# EAGLE library part STM32F469BET6 (library circuit_tree)
IC
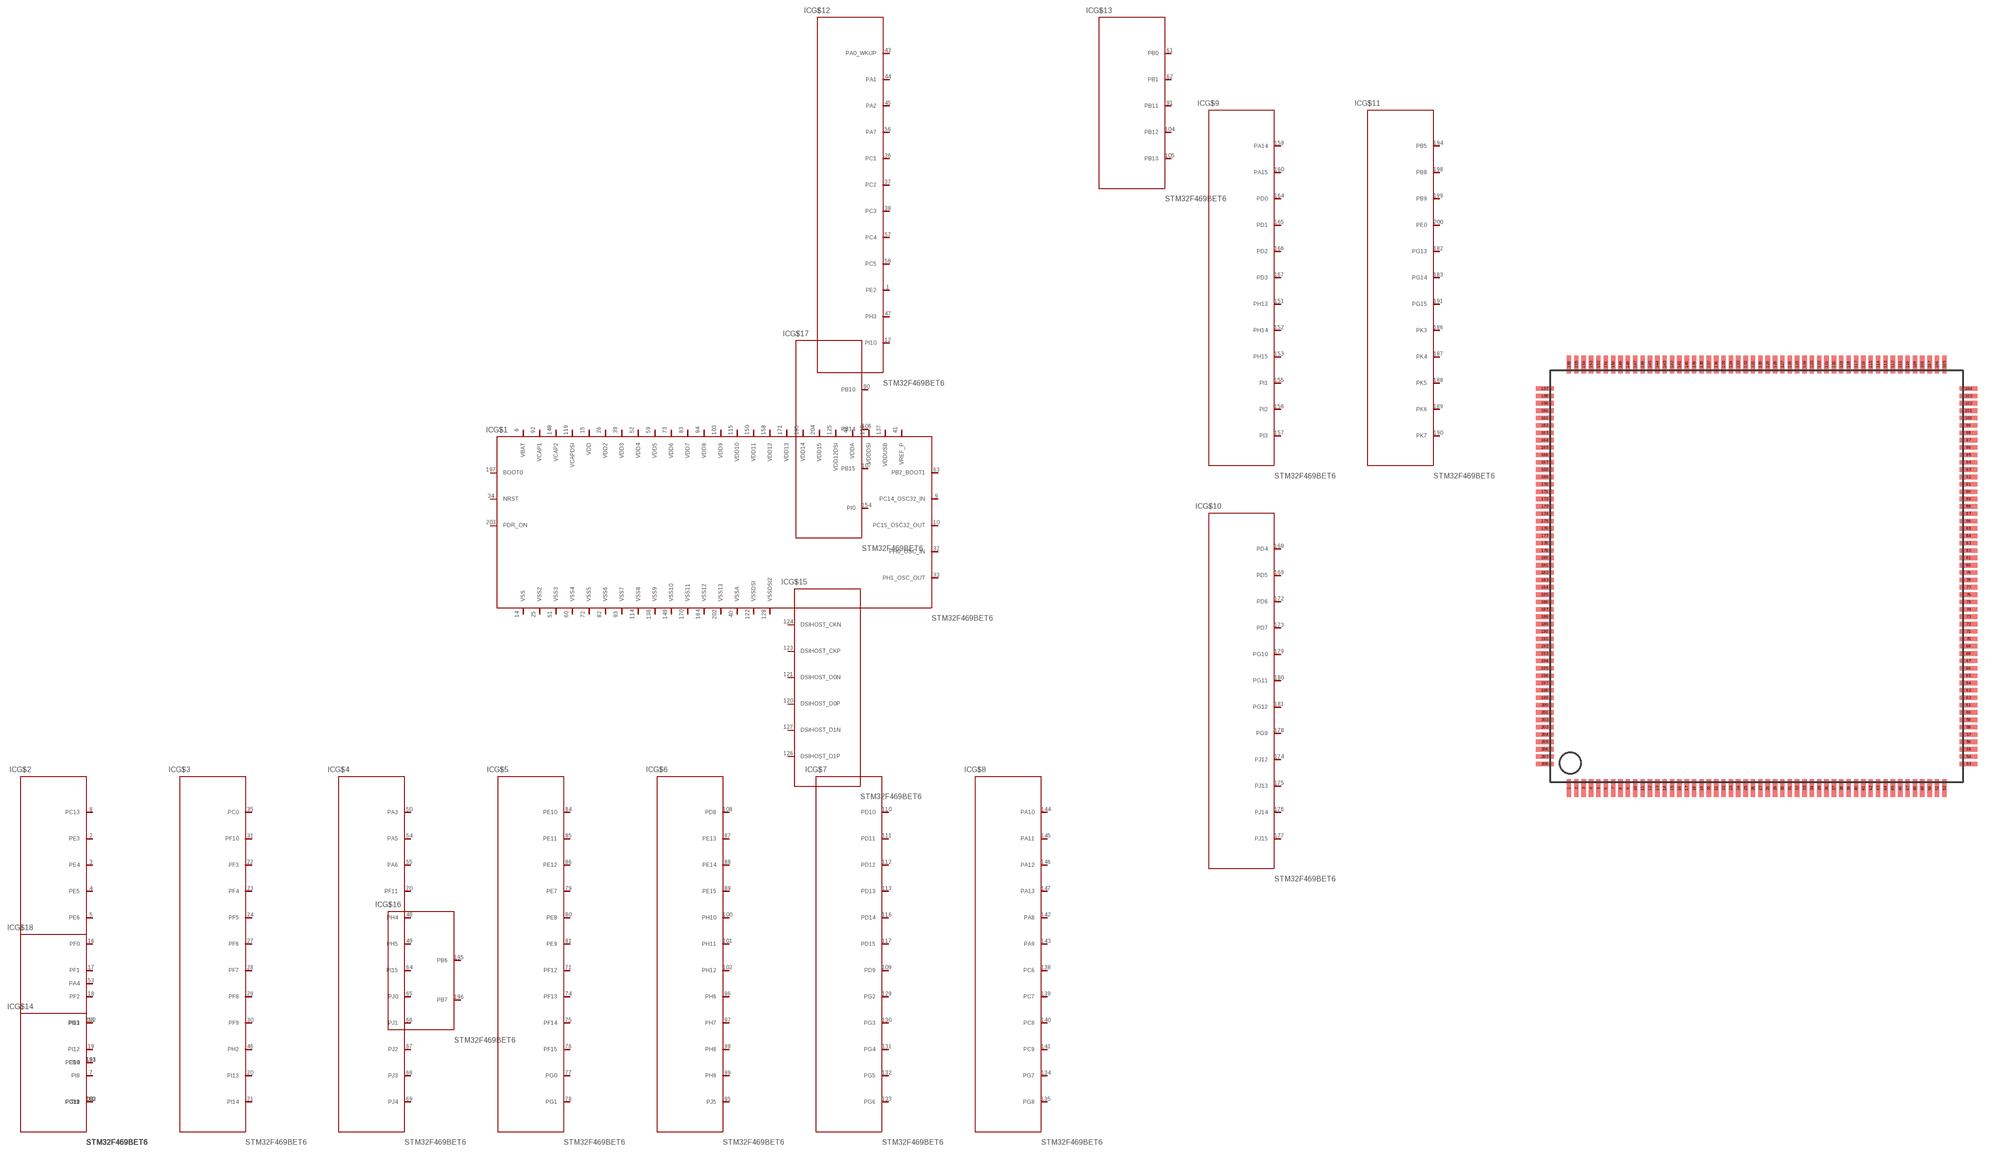
[diagram p11: symbol with the pads of LQFP208; footprint LQFP208]

Designator prefix IC; gates G$1=STM32F469BET6 G$2=STM32F469BET62 G$3=STM32F469BET63 G$4=STM32F469BET64 G$5=STM32F469BET65 G$6=STM32F469BET66 G$7=STM32F469BET67 G$8=STM32F469BET68 G$9=STM32F469BET69 G$10=STM32F469BET610 G$11=STM32F469BET611 G$12=STM32F469BET612 G$13=STM32F469BET613 G$14=STM32F469BET614 G$15=STM32F469BET615 G$16=STM32F469BET616 G$17=STM32F469BET617 G$18=STM32F469BET618

## STM32F469BET6  [LQFP208]
1  G$12:PE2  pas
2  G$2:PE3  pas
3  G$2:PE4  pas
4  G$2:PE5  pas
5  G$2:PE6  pas
6  G$1:VBAT  pas
7  G$2:PI8  pas
8  G$2:PC13  pas
9  G$1:PC14_OSC32_IN  pas
10  G$1:PC15_OSC32_OUT  pas
11  G$2:PI9  pas
12  G$12:PI10  pas
13  G$2:PI11  pas
14  G$1:VSS  pas
15  G$1:VDD  pas
16  G$2:PF0  pas
17  G$2:PF1  pas
18  G$2:PF2  pas
19  G$2:PI12  pas
20  G$3:PI13  pas
21  G$3:PI14  pas
22  G$3:PF3  pas
23  G$3:PF4  pas
24  G$3:PF5  pas
25  G$1:VSS2  pas
26  G$1:VDD2  pas
27  G$3:PF6  pas
28  G$3:PF7  pas
29  G$3:PF8  pas
30  G$3:PF9  pas
31  G$3:PF10  pas
32  G$1:PH0_OSC_IN  pas
33  G$1:PH1_OSC_OUT  pas
34  G$1:NRST  pas
35  G$3:PC0  pas
36  G$12:PC1  pas
37  G$12:PC2  pas
38  G$12:PC3  pas
39  G$1:VDD3  pas
40  G$1:VSSA  pas
41  G$1:VREF_P  pas
42  G$1:VDDA  pas
43  G$12:PA0_WKUP  pas
44  G$12:PA1  pas
45  G$12:PA2  pas
46  G$3:PH2  pas
47  G$12:PH3  pas
48  G$4:PH4  pas
49  G$4:PH5  pas
50  G$4:PA3  pas
51  G$1:VSS3  pas
52  G$1:VDD4  pas
53  G$18:PA4  pas
54  G$4:PA5  pas
55  G$4:PA6  pas
56  G$12:PA7  pas
57  G$12:PC4  pas
58  G$12:PC5  pas
59  G$1:VDD5  pas
60  G$1:VSS4  pas
61  G$13:PB0  pas
62  G$13:PB1  pas
63  G$1:PB2_BOOT1  pas
64  G$4:PI15  pas
65  G$4:PJ0  pas
66  G$4:PJ1  pas
67  G$4:PJ2  pas
68  G$4:PJ3  pas
69  G$4:PJ4  pas
70  G$4:PF11  pas
71  G$5:PF12  pas
72  G$1:VSS5  pas
73  G$1:VDD6  pas
74  G$5:PF13  pas
75  G$5:PF14  pas
76  G$5:PF15  pas
77  G$5:PG0  pas
78  G$5:PG1  pas
79  G$5:PE7  pas
80  G$5:PE8  pas
81  G$5:PE9  pas
82  G$1:VSS6  pas
83  G$1:VDD7  pas
84  G$5:PE10  pas
85  G$5:PE11  pas
86  G$5:PE12  pas
87  G$6:PE13  pas
88  G$6:PE14  pas
89  G$6:PE15  pas
90  G$17:PB10  pas
91  G$13:PB11  pas
92  G$1:VCAP1  pas
93  G$1:VSS7  pas
94  G$1:VDD8  pas
95  G$6:PJ5  pas
96  G$6:PH6  pas
97  G$6:PH7  pas
98  G$6:PH8  pas
99  G$6:PH9  pas
100  G$6:PH10  pas
101  G$6:PH11  pas
102  G$6:PH12  pas
103  G$1:VDD9  pas
104  G$13:PB12  pas
105  G$13:PB13  pas
106  G$17:PB14  pas
107  G$17:PB15  pas
108  G$6:PD8  pas
109  G$7:PD9  pas
110  G$7:PD10  pas
111  G$7:PD11  pas
112  G$7:PD12  pas
113  G$7:PD13  pas
114  G$1:VSS8  pas
115  G$1:VDD10  pas
116  G$7:PD14  pas
117  G$7:PD15  pas
118  G$1:VDDDSI  pas
119  G$1:VCAPDSI  pas
120  G$15:DSIHOST_D0P  pas
121  G$15:DSIHOST_D0N  pas
122  G$1:VSSDSI  pas
123  G$15:DSIHOST_CKP  pas
124  G$15:DSIHOST_CKN  pas
125  G$1:VDD12DSI  pas
126  G$15:DSIHOST_D1P  pas
127  G$15:DSIHOST_D1N  pas
128  G$1:VSSDSI2  pas
129  G$7:PG2  pas
130  G$7:PG3  pas
131  G$7:PG4  pas
132  G$7:PG5  pas
133  G$7:PG6  pas
134  G$8:PG7  pas
135  G$8:PG8  pas
136  G$1:VSS9  pas
137  G$1:VDDUSB  pas
138  G$8:PC6  pas
139  G$8:PC7  pas
140  G$8:PC8  pas
141  G$8:PC9  pas
142  G$8:PA8  pas
143  G$8:PA9  pas
144  G$8:PA10  pas
145  G$8:PA11  pas
146  G$8:PA12  pas
147  G$8:PA13  pas
148  G$1:VCAP2  pas
149  G$1:VSS10  pas
150  G$1:VDD11  pas
151  G$9:PH13  pas
152  G$9:PH14  pas
153  G$9:PH15  pas
154  G$17:PI0  pas
155  G$9:PI1  pas
156  G$9:PI2  pas
157  G$9:PI3  pas
158  G$1:VDD12  pas
159  G$9:PA14  pas
160  G$9:PA15  pas
161  G$14:PC10  pas
162  G$14:PC11  pas
163  G$18:PC12  pas
164  G$9:PD0  pas
165  G$9:PD1  pas
166  G$9:PD2  pas
167  G$9:PD3  pas
168  G$10:PD4  pas
169  G$10:PD5  pas
170  G$1:VSS11  pas
171  G$1:VDD13  pas
172  G$10:PD6  pas
173  G$10:PD7  pas
174  G$10:PJ12  pas
175  G$10:PJ13  pas
176  G$10:PJ14  pas
177  G$10:PJ15  pas
178  G$10:PG9  pas
179  G$10:PG10  pas
180  G$10:PG11  pas
181  G$10:PG12  pas
182  G$11:PG13  pas
183  G$11:PG14  pas
184  G$1:VSS12  pas
185  G$1:VDD14  pas
186  G$11:PK3  pas
187  G$11:PK4  pas
188  G$11:PK5  pas
189  G$11:PK6  pas
190  G$11:PK7  pas
191  G$11:PG15  pas
192  G$18:PB3  pas
193  G$18:PB4  pas
194  G$11:PB5  pas
195  G$16:PB6  pas
196  G$16:PB7  pas
197  G$1:BOOT0  pas
198  G$11:PB8  pas
199  G$11:PB9  pas
200  G$11:PE0  pas
202  G$1:VSS13  pas
203  G$1:PDR_ON  pas
204  G$1:VDD15  pas

## Footprint LQFP208 (pad centres in mm)
LQFP208 28 x 28 mm, 208-pin low-profile quad flat package
smd 0.3 x 1.2: 1 -12.75,-14.4; 2 -12.25,-14.4; 3 -11.75,-14.4; 4 -11.25,-14.4; 5 -10.75,-14.4; 6 -10.25,-14.4; 7 -9.75,-14.4; 8 -9.25,-14.4; 9 -8.75,-14.4; 10 -8.25,-14.4; 11 -7.75,-14.4; 12 -7.25,-14.4; 13 -6.75,-14.4; 14 -6.25,-14.4; 15 -5.75,-14.4; 16 -5.25,-14.4; 17 -4.75,-14.4; 18 -4.25,-14.4; 19 -3.75,-14.4; 20 -3.25,-14.4; 21 -2.75,-14.4; 22 -2.25,-14.4; 23 -1.75,-14.4; 24 -1.25,-14.4; 25 -0.75,-14.4; 26 -0.25,-14.4; 27 0.25,-14.4; 28 0.75,-14.4; 29 1.25,-14.4; 30 1.75,-14.4; 31 2.25,-14.4; 32 2.75,-14.4; 33 3.25,-14.4; 34 3.75,-14.4; 35 4.25,-14.4; 36 4.75,-14.4; 37 5.25,-14.4; 38 5.75,-14.4; 39 6.25,-14.4; 40 6.75,-14.4; 41 7.25,-14.4; 42 7.75,-14.4; 43 8.25,-14.4; 44 8.75,-14.4; 45 9.25,-14.4; 46 9.75,-14.4; 47 10.25,-14.4; 48 10.75,-14.4; 49 11.25,-14.4; 50 11.75,-14.4; 51 12.25,-14.4; 52 12.75,-14.4; 105 12.75,14.4; 106 12.25,14.4; 107 11.75,14.4; 108 11.25,14.4; 109 10.75,14.4; 110 10.25,14.4; 111 9.75,14.4; 112 9.25,14.4; 113 8.75,14.4; 114 8.25,14.4; 115 7.75,14.4; 116 7.25,14.4; 117 6.75,14.4; 118 6.25,14.4; 119 5.75,14.4; 120 5.25,14.4; 121 4.75,14.4; 122 4.25,14.4; 123 3.75,14.4; 124 3.25,14.4; 125 2.75,14.4; 126 2.25,14.4; 127 1.75,14.4; 128 1.25,14.4; 129 0.75,14.4; 130 0.25,14.4; 131 -0.25,14.4; 132 -0.75,14.4; 133 -1.25,14.4; 134 -1.75,14.4; 135 -2.25,14.4; 136 -2.75,14.4; 137 -3.25,14.4; 138 -3.75,14.4; 139 -4.25,14.4; 140 -4.75,14.4; 141 -5.25,14.4; 142 -5.75,14.4; 143 -6.25,14.4; 144 -6.75,14.4; 145 -7.25,14.4; 146 -7.75,14.4; 147 -8.25,14.4; 148 -8.75,14.4; 149 -9.25,14.4; 150 -9.75,14.4; 151 -10.25,14.4; 152 -10.75,14.4; 153 -11.25,14.4; 154 -11.75,14.4; 155 -12.25,14.4; 156 -12.75,14.4
smd 1.2 x 0.3: 53 14.4,-12.75; 54 14.4,-12.25; 55 14.4,-11.75; 56 14.4,-11.25; 57 14.4,-10.75; 58 14.4,-10.25; 59 14.4,-9.75; 60 14.4,-9.25; 61 14.4,-8.75; 62 14.4,-8.25; 63 14.4,-7.75; 64 14.4,-7.25; 65 14.4,-6.75; 66 14.4,-6.25; 67 14.4,-5.75; 68 14.4,-5.25; 69 14.4,-4.75; 70 14.4,-4.25; 71 14.4,-3.75; 72 14.4,-3.25; 73 14.4,-2.75; 74 14.4,-2.25; 75 14.4,-1.75; 76 14.4,-1.25; 77 14.4,-0.75; 78 14.4,-0.25; 79 14.4,0.25; 80 14.4,0.75; 81 14.4,1.25; 82 14.4,1.75; 83 14.4,2.25; 84 14.4,2.75; 85 14.4,3.25; 86 14.4,3.75; 87 14.4,4.25; 88 14.4,4.75; 89 14.4,5.25; 90 14.4,5.75; 91 14.4,6.25; 92 14.4,6.75; 93 14.4,7.25; 94 14.4,7.75; 95 14.4,8.25; 96 14.4,8.75; 97 14.4,9.25; 98 14.4,9.75; 99 14.4,10.25; 100 14.4,10.75; 101 14.4,11.25; 102 14.4,11.75; 103 14.4,12.25; 104 14.4,12.75; 157 -14.4,12.75; 158 -14.4,12.25; 159 -14.4,11.75; 160 -14.4,11.25; 161 -14.4,10.75; 162 -14.4,10.25; 163 -14.4,9.75; 164 -14.4,9.25; 165 -14.4,8.75; 166 -14.4,8.25; 167 -14.4,7.75; 168 -14.4,7.25; 169 -14.4,6.75; 170 -14.4,6.25; 171 -14.4,5.75; 172 -14.4,5.25; 173 -14.4,4.75; 174 -14.4,4.25; 175 -14.4,3.75; 176 -14.4,3.25; 177 -14.4,2.75; 178 -14.4,2.25; 179 -14.4,1.75; 180 -14.4,1.25; 181 -14.4,0.75; 182 -14.4,0.25; 183 -14.4,-0.25; 184 -14.4,-0.75; 185 -14.4,-1.25; 186 -14.4,-1.75; 187 -14.4,-2.25; 188 -14.4,-2.75; 189 -14.4,-3.25; 190 -14.4,-3.75; 191 -14.4,-4.25; 192 -14.4,-4.75; 193 -14.4,-5.25; 194 -14.4,-5.75; 195 -14.4,-6.25; 196 -14.4,-6.75; 197 -14.4,-7.25; 198 -14.4,-7.75; 199 -14.4,-8.25; 200 -14.4,-8.75; 201 -14.4,-9.25; 202 -14.4,-9.75; 203 -14.4,-10.25; 204 -14.4,-10.75; 205 -14.4,-11.25; 206 -14.4,-11.75; 207 -14.4,-12.25; 208 -14.4,-12.75